# EAGLE library part USB332X (library GTA04b7)
ULPI USB-PHY driver SMSC USB332x
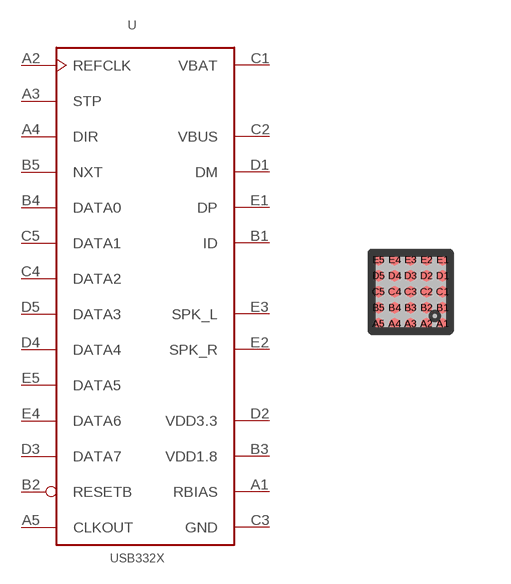
[diagram p55: symbol with the pads of WLCSP25-N25-0.4; footprint WLCSP25-N25-0.4]

Designator prefix -

## USB332XC-GJ-TR (MICRO-VIA: 1:B2,B3,B4,C2,C4,D2,D3,D4,2:C3,D1,E1)  [WLCSP25-N25-0.4]
A1  RBIAS
A2  REFCLK  in
A3  STP  in
A4  DIR  out
A5  CLKOUT  out
B1  ID  in
B2  RESETB  in
B3  VDD1.8
B4  DATA0
B5  NXT  out
C1  VBAT
C2  VBUS
C3  GND
C4  DATA2
C5  DATA1
D1  DM
D2  VDD3.3
D3  DATA7
D4  DATA4
D5  DATA3
E1  DP
E2  SPK_R
E3  SPK_L
E4  DATA6
E5  DATA5

## Footprint WLCSP25-N25-0.4 (pad centres in mm)
PBGA 25 pins 0.4 pitch
smd 0.275 x 0.275: A1 0.8,-0.8; A2 0.4,-0.8; A3 0,-0.8; A4 -0.4,-0.8; A5 -0.8,-0.8; B1 0.8,-0.4; B2 0.4,-0.4; B3 0,-0.4; B4 -0.4,-0.4; B5 -0.8,-0.4; C1 0.8,0; C2 0.4,0; C3 0,0; C4 -0.4,0; C5 -0.8,0; D1 0.8,0.4; D2 0.4,0.4; D3 0,0.4; D4 -0.4,0.4; D5 -0.8,0.4; E1 0.8,0.8; E2 0.4,0.8; E3 0,0.8; E4 -0.4,0.8; E5 -0.8,0.8